# Altium schematic symbol library WE-TDC HV.SchLib: 9 symbols
Pins are listed as number, name and electrical type; pins without a type are passive.

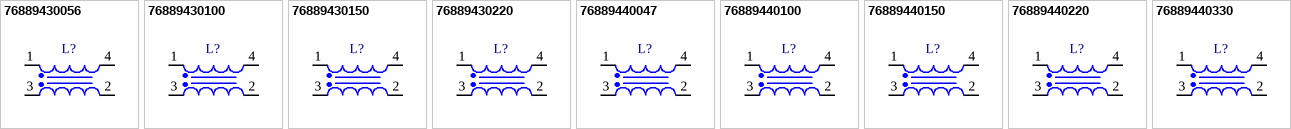
[diagram p0: symbols 76889430056 to 76889440330]

## 76889430056
designator L?, comment 5.6uH, 1.4A  (value not drawn)
WE-TDC HV SMT Coupled Inductor, size 8018, 1:1, 5.6uH, 1.4A, 234mohm; Manufacturer Part Number: 76889430056; Manufacturer: Wurth Elektronik; Case/Size Code: 8018; DC Resistance 1: 190mohm; Saturation Current 1: 2A; Self Resonant Frequency: 58MHz; Category: Power Inductors; Match Code: WE-TDC HV; ComponentLink1Description: Website Link; ComponentLink1URL: https://www.we-online.com; ComponentLink2Description: Datasheet Link; ComponentLink2URL: https://www.we-online.com/components/products/datasheet/76889430056; Mount: Surface Mount; Operating Temperature Min: -40degC; Operating Temperature Max: 125degC; Packaging: Tape and Reel; Length: 8mm; Width: 8mm; Height: 1.8mm; DC Resistance 2: 190mohm; DC Resistance Max 1: 234mohm; DC Resistance Max 2: 234mohm; Inductance 1: 5.6uH; Inductance 2: 5.6uH; Rated Current 1: 1.4A; Rated Current 2: 1.4A; Saturation Current 2: 2A; Turns Ratio: 1:1
footprint WE-TDC HV_8018
simulation model 8018_76889430056_5.6u
pins: 1, 2, 3, 4

## 76889430100
designator L?, comment 10uH, 1.1A  (value not drawn)
WE-TDC HV SMT Coupled Inductor, size 8018, 1:1, 10uH, 1.1A, 321mohm; Manufacturer Part Number: 76889430100; Manufacturer: Wurth Elektronik; Case/Size Code: 8018; DC Resistance 1: 280mohm; Saturation Current 1: 1.67A; Self Resonant Frequency: 47.5MHz; Category: Power Inductors; Match Code: WE-TDC HV; ComponentLink1Description: Website Link; ComponentLink1URL: https://www.we-online.com; ComponentLink2Description: Datasheet Link; ComponentLink2URL: https://www.we-online.com/components/products/datasheet/76889430100; Mount: Surface Mount; Operating Temperature Min: -40degC; Operating Temperature Max: 125degC; Packaging: Tape and Reel; Length: 8mm; Width: 8mm; Height: 1.8mm; DC Resistance 2: 280mohm; DC Resistance Max 1: 321mohm; DC Resistance Max 2: 321mohm; Inductance 1: 10uH; Inductance 2: 10uH; Rated Current 1: 1.1A; Rated Current 2: 1.1A; Saturation Current 2: 1.67A; Turns Ratio: 1:1
footprint WE-TDC HV_8018
simulation model 8018_76889430100_10u
pins: 1, 2, 3, 4

## 76889430150
designator L?, comment 15uH, 0.95A  (value not drawn)
WE-TDC HV SMT Coupled Inductor, size 8018, 1:1, 15uH, 0.95A, 422mohm; Manufacturer Part Number: 76889430150; Manufacturer: Wurth Elektronik; Case/Size Code: 8018; DC Resistance 1: 380mohm; Saturation Current 1: 1.3A; Self Resonant Frequency: 35MHz; Category: Power Inductors; Match Code: WE-TDC HV; ComponentLink1Description: Website Link; ComponentLink1URL: https://www.we-online.com; ComponentLink2Description: Datasheet Link; ComponentLink2URL: https://www.we-online.com/components/products/datasheet/76889430150; Mount: Surface Mount; Operating Temperature Min: -40degC; Operating Temperature Max: 125degC; Packaging: Tape and Reel; Length: 8mm; Width: 8mm; Height: 1.8mm; DC Resistance 2: 380mohm; DC Resistance Max 1: 422mohm; DC Resistance Max 2: 422mohm; Inductance 1: 15uH; Inductance 2: 15uH; Rated Current 1: 0.95A; Rated Current 2: 0.95A; Saturation Current 2: 1.3A; Turns Ratio: 1:1
footprint WE-TDC HV_8018
simulation model 8018_76889430150_15u
pins: 1, 2, 3, 4

## 76889430220
designator L?, comment 22uH, 0.75A  (value not drawn)
WE-TDC HV SMT Coupled Inductor, size 8018, 1:1, 22uH, 0.75A, 780mohm; Manufacturer Part Number: 76889430220; Manufacturer: Wurth Elektronik; Case/Size Code: 8018; DC Resistance 1: 700mohm; Saturation Current 1: 1A; Self Resonant Frequency: 26MHz; Category: Power Inductors; Match Code: WE-TDC HV; ComponentLink1Description: Website Link; ComponentLink1URL: https://www.we-online.com; ComponentLink2Description: Datasheet Link; ComponentLink2URL: https://www.we-online.com/components/products/datasheet/76889430220; Mount: Surface Mount; Operating Temperature Min: -40degC; Operating Temperature Max: 125degC; Packaging: Tape and Reel; Length: 8mm; Width: 8mm; Height: 1.8mm; DC Resistance 2: 700mohm; DC Resistance Max 1: 780mohm; DC Resistance Max 2: 780mohm; Inductance 1: 22uH; Inductance 2: 22uH; Rated Current 1: 0.75A; Rated Current 2: 0.75A; Saturation Current 2: 1A; Turns Ratio: 1:1
footprint WE-TDC HV_8018
simulation model 8018_76889430220_22u
pins: 1, 2, 3, 4

## 76889440047
designator L?, comment 4.7uH, 2.45A  (value not drawn)
WE-TDC HV SMT Coupled Inductor, size 8038, 1:1, 4.7uH, 2.45A, 110mohm; Manufacturer Part Number: 76889440047; Manufacturer: Wurth Elektronik; Case/Size Code: 8038; DC Resistance 1: 85mohm; Saturation Current 1: 4.7A; Self Resonant Frequency: 43MHz; Category: Power Inductors; Match Code: WE-TDC HV; ComponentLink1Description: Website Link; ComponentLink1URL: https://www.we-online.com; ComponentLink2Description: Datasheet Link; ComponentLink2URL: https://www.we-online.com/components/products/datasheet/76889440047; Mount: Surface Mount; Operating Temperature Min: -40degC; Operating Temperature Max: 125degC; Packaging: Tape and Reel; Length: 8mm; Width: 8mm; Height: 3.8mm; DC Resistance 2: 85mohm; DC Resistance Max 1: 110mohm; DC Resistance Max 2: 110mohm; Inductance 1: 4.7uH; Inductance 2: 4.7uH; Rated Current 1: 2.45A; Rated Current 2: 2.45A; Saturation Current 2: 4.7A; Turns Ratio: 1:1
footprint WE-TDC HV_8038
simulation model 8038_76889440047_4.7u
pins: 1, 2, 3, 4

## 76889440100
designator L?, comment 10uH, 1.6A  (value not drawn)
WE-TDC HV SMT Coupled Inductor, size 8038, 1:1, 10uH, 1.6A, 200mohm; Manufacturer Part Number: 76889440100; Manufacturer: Wurth Elektronik; Case/Size Code: 8038; DC Resistance 1: 160mohm; Saturation Current 1: 3A; Self Resonant Frequency: 29MHz; Category: Power Inductors; Match Code: WE-TDC HV; ComponentLink1Description: Website Link; ComponentLink1URL: https://www.we-online.com; ComponentLink2Description: Datasheet Link; ComponentLink2URL: https://www.we-online.com/components/products/datasheet/76889440100; Mount: Surface Mount; Operating Temperature Min: -40degC; Operating Temperature Max: 125degC; Packaging: Tape and Reel; Length: 8mm; Width: 8mm; Height: 3.8mm; DC Resistance 2: 160mohm; DC Resistance Max 1: 200mohm; DC Resistance Max 2: 200mohm; Inductance 1: 10uH; Inductance 2: 10uH; Rated Current 1: 1.6A; Rated Current 2: 1.6A; Saturation Current 2: 3A; Turns Ratio: 1:1
footprint WE-TDC HV_8038
simulation model 8038_76889440100_10u
pins: 1, 2, 3, 4

## 76889440150
designator L?, comment 15uH, 1.25A  (value not drawn)
WE-TDC HV SMT Coupled Inductor, size 8038, 1:1, 15uH, 1.25A, 355mohm; Manufacturer Part Number: 76889440150; Manufacturer: Wurth Elektronik; Case/Size Code: 8038; DC Resistance 1: 300mohm; Saturation Current 1: 2.8A; Self Resonant Frequency: 21MHz; Category: Power Inductors; Match Code: WE-TDC HV; ComponentLink1Description: Website Link; ComponentLink1URL: https://www.we-online.com; ComponentLink2Description: Datasheet Link; ComponentLink2URL: https://www.we-online.com/components/products/datasheet/76889440150; Mount: Surface Mount; Operating Temperature Min: -40degC; Operating Temperature Max: 125degC; Packaging: Tape and Reel; Length: 8mm; Width: 8mm; Height: 3.8mm; DC Resistance 2: 300mohm; DC Resistance Max 1: 355mohm; DC Resistance Max 2: 355mohm; Inductance 1: 15uH; Inductance 2: 15uH; Rated Current 1: 1.25A; Rated Current 2: 1.25A; Saturation Current 2: 2.8A; Turns Ratio: 1:1
footprint WE-TDC HV_8038
simulation model 8038_76889440150_15u
pins: 1, 2, 3, 4

## 76889440220
designator L?, comment 22uH, 1A  (value not drawn)
WE-TDC HV SMT Coupled Inductor, size 8038, 1:1, 22uH, 1A, 455mohm; Manufacturer Part Number: 76889440220; Manufacturer: Wurth Elektronik; Case/Size Code: 8038; DC Resistance 1: 390mohm; Saturation Current 1: 2.1A; Self Resonant Frequency: 15.5MHz; Category: Power Inductors; Match Code: WE-TDC HV; ComponentLink1Description: Website Link; ComponentLink1URL: https://www.we-online.com; ComponentLink2Description: Datasheet Link; ComponentLink2URL: https://www.we-online.com/components/products/datasheet/76889440220; Mount: Surface Mount; Operating Temperature Min: -40degC; Operating Temperature Max: 125degC; Packaging: Tape and Reel; Length: 8mm; Width: 8mm; Height: 3.8mm; DC Resistance 2: 390mohm; DC Resistance Max 1: 455mohm; DC Resistance Max 2: 455mohm; Inductance 1: 22uH; Inductance 2: 22uH; Rated Current 1: 1A; Rated Current 2: 1A; Saturation Current 2: 2.1A; Turns Ratio: 1:1
footprint WE-TDC HV_8038
simulation model 8038_76889440220_22u
pins: 1, 2, 3, 4

## 76889440330
designator L?, comment 33uH, 0.85A  (value not drawn)
WE-TDC HV SMT Coupled Inductor, size 8038, 1:1, 33uH, 0.85A, 640mohm; Manufacturer Part Number: 76889440330; Manufacturer: Wurth Elektronik; Case/Size Code: 8038; DC Resistance 1: 575mohm; Saturation Current 1: 1.85A; Self Resonant Frequency: 14MHz; Category: Power Inductors; Match Code: WE-TDC HV; ComponentLink1Description: Website Link; ComponentLink1URL: https://www.we-online.com; ComponentLink2Description: Datasheet Link; ComponentLink2URL: https://www.we-online.com/components/products/datasheet/76889440330; Mount: Surface Mount; Operating Temperature Min: -40degC; Operating Temperature Max: 125degC; Packaging: Tape and Reel; Length: 8mm; Width: 8mm; Height: 3.8mm; DC Resistance 2: 575mohm; DC Resistance Max 1: 640mohm; DC Resistance Max 2: 640mohm; Inductance 1: 33uH; Inductance 2: 33uH; Rated Current 1: 0.85A; Rated Current 2: 0.85A; Saturation Current 2: 1.85A; Turns Ratio: 1:1
footprint WE-TDC HV_8038
simulation model 8038_76889440330_33u
pins: 1, 2, 3, 4